# EAGLE library part FB155BC (library Dalek-Comm)
FB155BC http://archive.is/2pUYH https://www.eleparts.co.kr/data/goods_old/design/product_file/Firmtech/FB155BC/manual.pdf
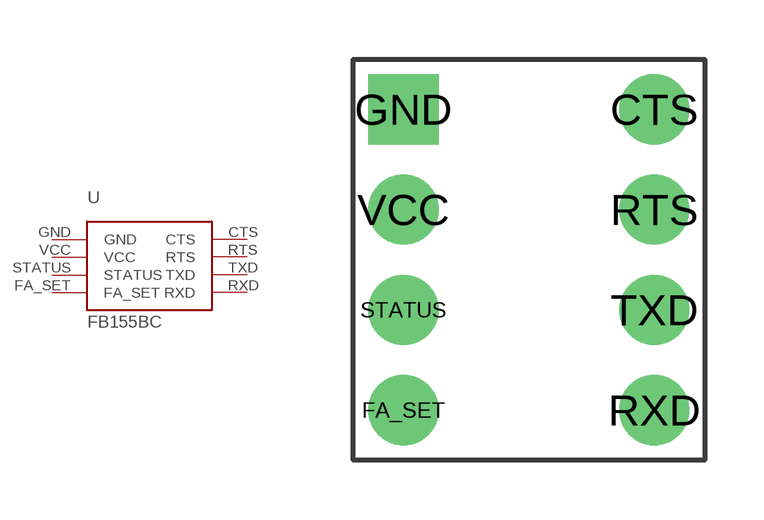
[diagram p0: symbol with the pads of FB155BC; footprint FB155BC]

Designator prefix -

## FB155BC  [FB155BC]
CTS  CTS
FA_SET  FA_SET
GND  GND
RTS  RTS
RXD  RXD
STATUS  STATUS
TXD  TXD
VCC  VCC

## Footprint FB155BC (pad centres in mm)
FB155BC http://archive.is/2pUYH
drill 0.8 pad 1.778: CTS 7.62,-1.27; FA_SET 1.27,-8.89; RTS 7.62,-3.81; RXD 7.62,-8.89; STATUS 1.27,-6.35; TXD 7.62,-6.35; VCC 1.27,-3.81
drill 0.8 pad 1.778 square: GND 1.27,-1.27